# EAGLE library part INA217 (library modEEG)
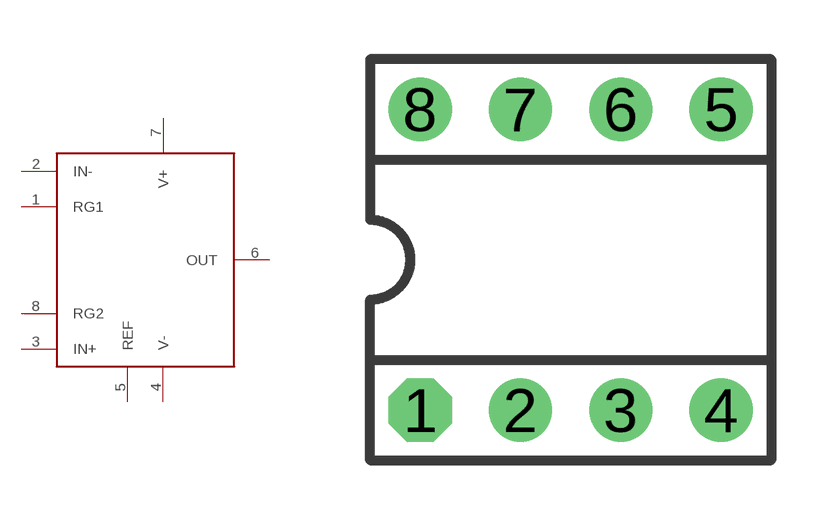
[diagram p1: symbol with the pads of DIL-08; footprint DIL-08]

Designator prefix -

## INA217  [DIL-08]
1  RG1
2  IN-
3  IN+
4  V-
5  REF
6  OUT
7  V+
8  RG2

## Footprint DIL-08 (pad centres in mm)
drill 0.889 pad 1.6 octagon: 1 -3.81,-3.81
drill 0.889 pad 1.6: 2 -1.27,-3.81; 3 1.27,-3.81; 4 3.81,-3.81; 5 3.81,3.81; 6 1.27,3.81; 7 -1.27,3.81; 8 -3.81,3.81